# Altium footprint library 6.6x7.1mm_SMD_Inductor.PcbLib: 1 footprints
Each footprint in its own frame and in the unit in brackets; x right, y up, seen from the top. Pads: shape width x height; smd on the part's side, far side on the other; paste and mask are expansions set on the pad; w line width, h text height; cw(c..) or ccw(c..) is an arc to the next point about the centre after c.
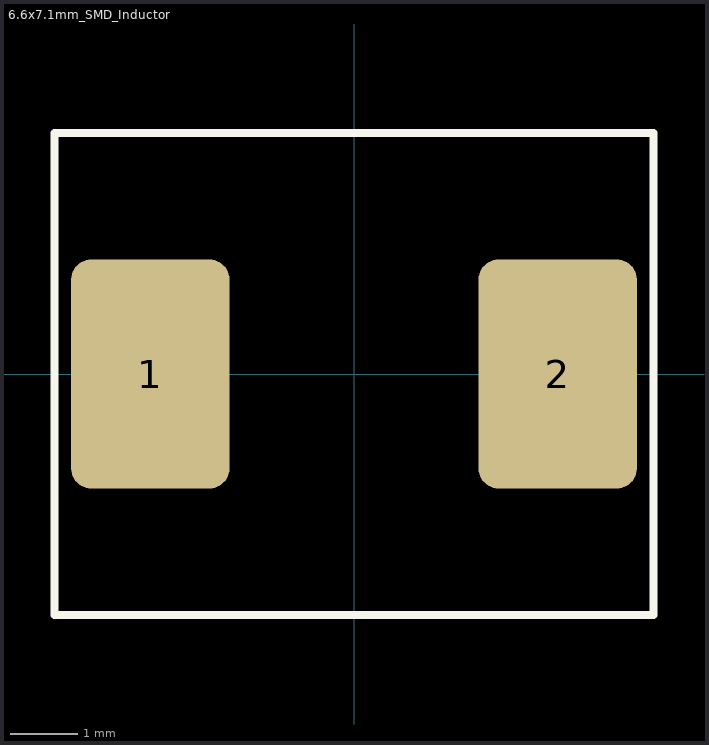
[diagram p0: the footprint, top view; thin cyan lines are the x and y axes]

## 6.6x7.1mm_SMD_Inductor [mm] "6.6x7.1mm_SMD_Inductor"
pads (2):
  rrect25% 2.35x3.4 smd paste+0 mask+0.102: 1(-3.025,0) 2(3.025,0)
Top Overlay:
  lines w0.12: -4.45,-3.58 -4.45,3.58 4.45,3.58 4.45,-3.58 -4.45,-3.58
Mechanical 1:
  lines w0.1: -4.45,-3.58 4.45,-3.58 4.45,3.58 -4.45,3.58 -4.45,-3.58
  text ".Designator" at -1.498,0.49 h2
Top Courtyard:
  text "+" at -1,-1.5 h3
3D body "YSPI0630A-220M.STEP": height 3, standoff -0.2, extent -3.81,-3.3 3.69,3.3